# Altium schematic symbol library rookieboard_symbols.SchLib: 37 symbols
Pins are listed as number, name and electrical type; pins without a type are passive.

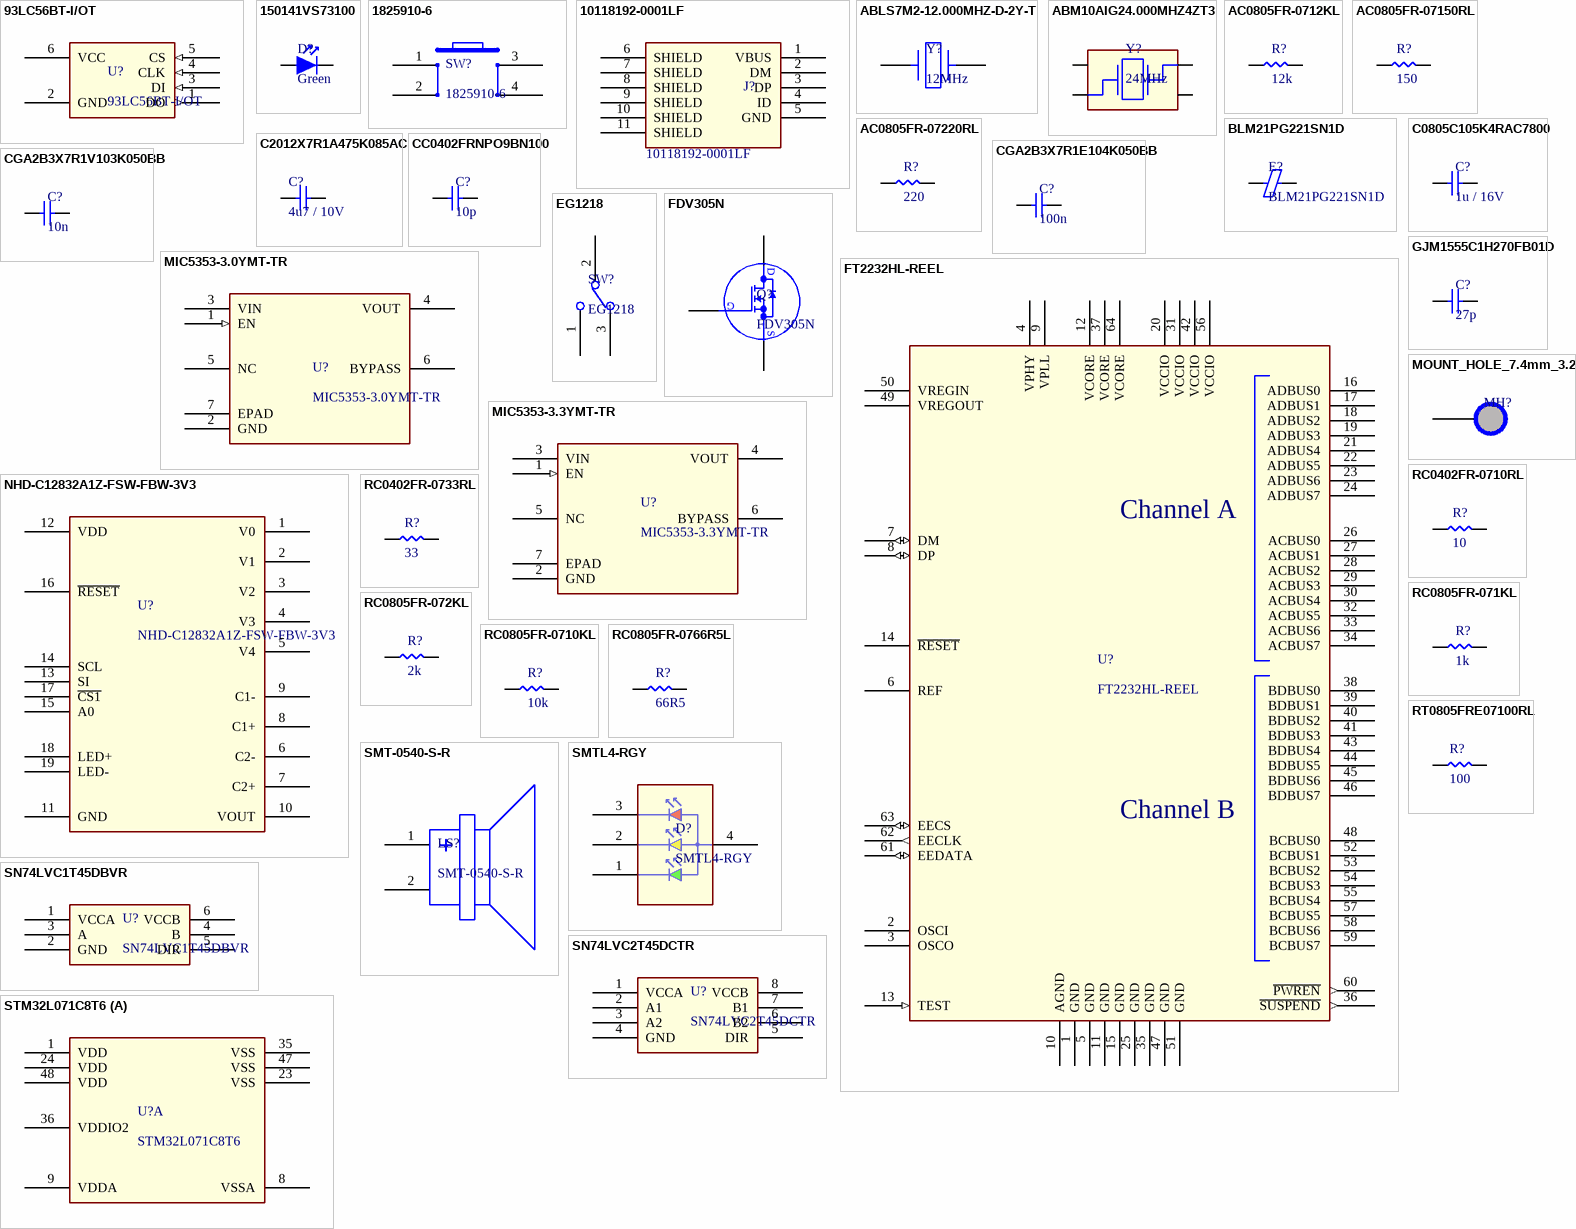
[diagram p0: symbols 93LC56BT-I/OT to STM32L071C8T6]

## 93LC56BT-I/OT
designator U?
EEPROM 128x16; Manufacturer: Microchip; Access Time (Max): 250 ns; Data Retention: 200; Density: 2048 Bit; Frequency: 2 MHz; Interface Type: Serial (Microwire); Operating Supply Voltage (Max): 5.5 V; Operating Supply Voltage (Min): 2.5 V; Operating Supply Voltage (Typ): 3.3/5 V; Programmable: Yes; Rad Hardened: No; Supply Current: 2 mA; Supplier 1: Digi-Key; Supplier Part Number 1: 93LC56BT-I/OTCT-ND; Stock 1: 24330; Pricing 1: 1=0.23, 25=0.2164, 100=0.2119 (USD); Mounting: Surface Mount; Operating Temp Range: -40C to 85C; Operating Temperature (Max): 85C; Operating Temperature (Min): -40C; Operating Temperature Classification: Industrial; Organization: 128x16; Package Type: SOT-23; Packaging: Tape and Reel; Pin Count: 6; Write Protection: No; Manufacturer Part Number: 93LC56BT-I/OT
footprint SOT-23-6
pins: 1 DO (out), 2 GND (power), 3 DI (in), 4 CLK (in), 5 CS (in), 6 VCC (power)

## 150141VS73100
designator D?, comment Green
WURTH ELEKTRONIK   150141VS73100   LED, GREEN, 90MCD, 570NM; Manufacturer: Wurth Electronics; Dynamic Catalog: 3.5mm x 2.8mm Round with Flat Top LEDs; 3D Model: SMTW_3528.igs / SMTW_3528.stp / SMTW_3528.wrl; Wavelength - Peak: 572nm; Voltage - Forward (Vf) (Typ): 2V; Current - Test: 20mA; Viewing Angle: 120°; Lens Type: Clear; Lens Style/Size: Round with Flat Top, 2.4mm; Other Names: 732-5002-1; Supplier 1: Digi-Key; Supplier Part Number 1: 732-5002-1-ND; Stock 1: 7722; Pricing 1: 1=0.17, 100=0.149, 500=0.113 (USD); Standard Package: 1; Category: Optoelectronics; Family: LED Indication - Discrete; Series: WL-SMTW; Packaging: Cut Tape (CT); Color: Green; Wavelength - Dominant: 570nm; Millicandela Rating: 90mcd; Package / Case: 2-PLCC; Size / Dimension: 3.20mm L x 2.80mm W; Height: 2.10mm; Mounting Type: Surface Mount; Online Catalog: 3.5mm x 2.8mm Round with Flat Top LEDs; Manufacturer Part Number: 150141VS73100
footprint 150141VS73100_LED
pins: 1 K, 2 A

## 1825910-6
designator SW?
Switch Push Button OFF (ON) SPST Round Button 0.05A 24VDC Momentary Contact PC Pins Thru-Hole; Manufacturer: TE Connectivity Alcoswitch; Actuator Color: Black; Actuator Length: 1.4 mm; Actuator Material: Polybutylene Terephthalate; Body Orientation: Straight; Bushing Type: Unthreaded; Electrical Life: 100000 Cycles; Dielectric Strength: 500 VAC; Contact Rating @ Voltage: 0.05A@24VDC; Maximum DC Voltage Rating: 24 V; Maximum Contact Resistance: 100 mOhm; Illumination: N/R; Supplier 1: Digi-Key; Supplier Part Number 1: 450-1650-ND; Stock 1: 75696; Pricing 1: 1=0.1, 10=0.093, 25=0.0892, 50=0.0862, 100=0.0814, 250=0.0766, 500=0.0734, 1000=0.0558, 5000=0.0463 (USD); Base Material: N/A; Actuator Style: Round Button; Family: 1825910; Contact Material: Copper Alloy; Contact Plating: Silver; Dimension: 5.99 x 5 mm; Part No: 1825910-6; RoHS: Yes; Function: Momentary Contact; Maximum AC Voltage Rating: N/A; Pole Throw Configuration: SPST; Mechanical Life: 100000 Cycles; Packaging: N/A; Housing Material: N/A; Product Weight: N/A; Mounting: Through Hole; Minimum Insulation Resistance: 100 MOhm; Operating Temperature: -35 to 85 C; Terminal Type: PC Pins; Seal Description: N/A; Switch Configuration: OFF (ON); Seal Location: N/A; Thread Size: N/R; Manufacturer Part Number: 1825910-6
footprint 1825910-6
pins: 1, 2, 3, 4

## 10118192-0001LF
designator J?
USB - micro B USB 2.0 Receptacle Connector 5 Position Surface Mount, Right Angle, Horizontal; Manufacturer: Amphenol FCI; Number of Contacts: 5 Contact; Gender: Female; Current Rating: 1.8 A; Brand: FCI; Connector Type: Micro USB Type B receptacle; Insulation Resistance: 1000 MOhms; Supplier 1: Digi-Key; Supplier Part Number 1: 609-4613-1-ND; Stock 1: 158518; Pricing 1: 1=0.42, 10=0.393, 25=0.3536, 50=0.3144, 100=0.3013, 250=0.2751, 500=0.262 (USD); Product Category: USB Connectors; RoHS: Details; Product: Micro USB Type B Connectors; Standard: USB 2.0; Termination Style: SMD/SMT; Color: Black; Contact Material: Copper Alloy; Contact Plating: Gold; Flammability Rating: UL 94 V-0; Mounting Angle: Right; Operating Temperature Range: - 55 C to + 85 C; Packaging: Reel; Factory Pack Quantity: 1400; Manufacturer Part Number: 10118192-0001LF
footprint 10118192-0001LF
pins: 1 VBUS (power), 2 DM, 3 DP, 4 ID, 5 GND (power), 6 SHIELD, 7 SHIELD, 8 SHIELD, 9 SHIELD, 10 SHIELD, 11 SHIELD

## ABLS7M2-12.000MHZ-D-2Y-T
designator Y?, comment 12MHz
Crystals 12.0MHz 18pF 30ppm -40C +85C; Manufacturer: Abracon; Manufacturer Part Number: ABLS7M2-12.000MHZ-D-2Y-T; Frequency Tolerance: ±20ppm; ESR (Equivalent Series Resistance): 60 Ohm; Operating Mode: Fundamental; Supplier 1: Digi-Key; Supplier Part Number 1: 535-12824-1-ND; Stock 1: 6192; Pricing 1: 1=0.4, 10=0.33, 50=0.297, 100=0.264, 500=0.2508, 1000=0.2112 (USD); Category: Crystals and Oscillators; Family: Crystals; Series: ABLS7M2; Packaging: Tape & Reel (TR); Type: MHz Crystal; Frequency: 12MHz; Frequency Stability: ±30ppm; Load Capacitance: 18pF; Operating Temperature: -40°C ~ 85°C; Ratings: -; Mounting Type: Surface Mount; Package / Case: 2-SMD, Flat Lead; Size / Dimension: 0.276" L x 0.161" W (7.00mm x 4.10mm); Height: 0.079" (2.00mm)
footprint ABLS7M2-12.000MHZ-D-2Y-T
pins: 1, 2

## ABM10AIG24.000MHZ4ZT3
designator Y?, comment 24MHz
Manufacturer: Abracon; Manufacturer Part Number: ABM10AIG24.000MHZ4ZT3; Supplier 1: Digi-Key; Supplier Part Number 1: 535-13363-1-ND; Stock 1: 0
footprint ABM10AIG-24.000MHZ-4Z-T3
pins: 1, 2, 3, 4

## AC0805FR-0712KL
designator R?, comment 12k
Res Thick Film 0805 12K Ohm 1% 0.125W(1/8W) ±100ppm/C Sulfur Resistant Molded SMD Automotive Paper T/R; Manufacturer: Yageo; Manufacturer Part Number: AC0805FR-0712KL; Resistance: 12kohm; Temperature Coefficient: ±100; Product Length (mm): 2mm; Product Depth (mm): 1.25mm; Product Height (mm): 0.5mm; Supplier 1: Digi-Key; Supplier Part Number 1: YAG3692CT-ND; Stock 1: 218; Pricing 1: 1=0.1, 10=0.055, 100=0.0225, 1000=0.0101, 2500=0.0088 (USD); Type: Thick Film; Power Rating(s): 1/8W; Tolerance (+ or -): 1%; Package / Case: 0805; Packaging: Tape and Reel; Operating Temp Range: -55C to 155C; Case Style: Molded; Military Standard: Not Required; Failure Rate: Not Required; Construction: Rectangular; Termination Style: Not Required
footprint R0805
pins: 1, 2

## AC0805FR-07150RL
designator R?, comment 150
Thick Film Resistors - SMD 1/8W 150ohm 1%; Manufacturer: Yageo; Manufacturer Part Number: AC0805FR-07150RL; Case Height: 0.5 mm; Case Length: 2 mm; Case Width: 1.25 mm; Power Rating: 125 mW (1/8 W); Resistance: 150 Ohms; Temperature Coefficient: 100 PPM / C; Voltage Rating: 150 V; Supplier 1: Digi-Key; Supplier Part Number 1: YAG3694CT-ND; Stock 1: 32315; Pricing 1: 1=0.1, 10=0.055, 100=0.0225, 1000=0.0101, 2500=0.0088 (USD); Brand: Yageo; Case Code - in: 0805; Case Code - mm: 2012; Dimensions: 1.25 mm W x 2 mm L x 0.5 mm H; Product Category: Thick Film Resistors - SMD; Operating Temperature Range: - 55 C to + 155 C; Package / Case: 0805 (2012 metric); Packaging: Reel; Product: Thick Film Resistors SMD; Termination Style: SMD/SMT; RoHS: Details; Tolerance: 1 %; Series: AC; Type: Chip Resistor Surface Mount
footprint R0805
pins: 1, 2

## AC0805FR-07220RL
designator R?, comment 220
Thick Film Resistors - SMD 1/8W 220ohm 1%; Manufacturer: Yageo; Manufacturer Part Number: AC0805FR-07220RL; Case Height: 0.5 mm; Case Length: 2 mm; Case Width: 1.25 mm; Power Rating: 125 mW (1/8 W); Resistance: 220 Ohms; Temperature Coefficient: 100 PPM / C; Voltage Rating: 150 V; Supplier 1: Digi-Key; Supplier Part Number 1: YAG3711CT-ND; Stock 1: 11948; Pricing 1: 1=0.1, 10=0.055, 100=0.0225, 1000=0.0101, 2500=0.0088 (USD); Brand: Yageo; Case Code - in: 0805; Case Code - mm: 2012; Dimensions: 1.25 mm W x 2 mm L x 0.5 mm H; Product Category: Thick Film Resistors - SMD; Operating Temperature Range: - 55 C to + 155 C; Package / Case: 0805 (2012 metric); Packaging: Reel; Product: Thick Film Resistors SMD; Termination Style: SMD/SMT; RoHS: Details; Tolerance: 1 %; Series: AC; Type: Chip Resistor Surface Mount
footprint R0805
pins: 1, 2

## BLM21PG221SN1D
designator E?
FERRITE CHIP 220 OHM 0805; Manufacturer: Murata; Product Training Modules: Ferrite Beads and Arrays; Catalog Drawings: BLM21 Series Side BLM21 Series Top; EDA / CAD Models: Download from Accelerated Designs; Filter Type: Power Line; Number of Lines: 1; Impedance @ Frequency: 220 Ohm @ 100MHz; Current Rating (Max): 2A; DC Resistance (DCR) (Max): 45 mOhm; Online Catalog: EMIFIL® BLM21P Series; Other Names: 490-1054-6; Supplier 1: Digi-Key; Supplier Part Number 1: 490-1054-1-ND; Stock 1: 1796179; Pricing 1: 1=0.1, 10=0.081, 25=0.0732, 50=0.0538, 100=0.0464, 250=0.0366, 500=0.0309, 1000=0.0261 (USD); Standard Package: 1; Category: Filters; Family: Ferrite Beads and Chips; Series: BLM21P; Packaging: Digi-Reel®; Ratings: -; Operating Temperature: -55°C ~ 125°C; Package / Case: 0805 (2012 Metric); Mounting Type: Surface Mount; Height (Max): 0.041" (1.05mm); Size / Dimension: 0.079" L x 0.049" W (2.00mm x 1.25mm); Manufacturer Part Number: BLM21PG221SN1D
footprint R0805
pins: 1, 2

## C0805C105K4RAC7800
designator C?, comment 1u / 16V
Multilayer Ceramic Capacitors MLCC - SMD/SMT 16volts 1uF X7R 10%; Manufacturer: KEMET; Manufacturer Part Number: C0805C105K4RAC7800; Rad Hard: No; Voltage: 16 Vdc; Product Length: 2 mm; Product Height: 0.9 mm; Product Depth: 1.25 mm; Supplier 1: Digi-Key; Supplier Part Number 1: 399-1284-1-ND; Stock 1: 40000; Pricing 1: 1=0.17, 10=0.124, 100=0.0581, 500=0.0408, 1000=0.0337 (USD); Package/Case: 0805; Mounting: Surface Mount; Capacitance Value: 1 uF; Tolerance: 10 %; Dielectric: X7R; Operating Temperature: -55 to 125 °C; Construction: Flat; Category: Capacitor Ceramic Multilayer
footprint C0805
pins: 1, 2

## C2012X7R1A475K085AC
designator C?, comment 4u7 / 10V
4.7µF ±10% 10V X7R Ceramic Capacitor -55°C ~ 125°C Surface Mount, MLCC 0805 (2012 Metric) 0.079" L x 0.049" W (2.00mm x 1.25mm); Manufacturer: TDK; Manufacturer Part Number: C2012X7R1A475K085AC; Product Training Modules: C Series General Applications SEAT, CCV, and TVCL Design Tools Guide to Replacing an Electrolytic Capacitor with an MLCC; EDA / CAD Models: Download from Accelerated Designs; Online Catalog: C Series, General Purpose; Other Names: 445-14527-6; Supplier 1: Digi-Key; Supplier Part Number 1: 445-14527-1-ND; Stock 1: 1; Pricing 1: 1=0.28, 10=0.19, 100=0.1075, 500=0.0759, 1000=0.0664 (USD); RoHS Information: RoHS Certificate-MLCC; Standard Package: 1; Category: Capacitors; Family: Ceramic Capacitors; Series: C; Packaging: Digi-Reel®; Capacitance: 4.7µF; Tolerance: ±10%; Voltage - Rated: 10V; Temperature Coefficient: X7R; Mounting Type: Surface Mount, MLCC; Operating Temperature: -55°C ~ 125°C; Applications: General Purpose; Package / Case: 0805 (2012 Metric); Size / Dimension: 0.079" L x 0.049" W (2.00mm x 1.25mm); Thickness (Max): 0.039" (1.00mm)
footprint C0805
pins: 1, 2

## CC0402FRNPO9BN100
designator C?, comment 10p
Cap Ceramic 10pF 50V C0G 1% SMD 0402 125C Paper T/R; Manufacturer: Yageo; Manufacturer Part Number: CC0402FRNPO9BN100; Voltage: 50VDC; Case Style: Ceramic Chip; Wire Form: Not Required; Product Length (mm): 1mm; Product Depth (mm): 0.5mm; Product Diameter (mm): Not Requiredmm; Supplier 1: Digi-Key; Supplier Part Number 1: 311-1640-1-ND; Stock 1: 82755; Pricing 1: 1=0.14, 10=0.104, 100=0.0464, 500=0.0331, 1000=0.026, 2500=0.0237, 5000=0.0218 (USD); Capacitance: 10pF; Tolerance (+ or -): 1%; Temp Coeff (Dielectric): C0G; Operating Temp Range: -55C to 125C; Mounting Style: Surface Mount; Package / Case: 0402; Construction: SMT Chip; Failure Rate: Not Required; Product Height (mm): 0.5mm; Packaging: Tape and Reel; ComponentLink1URL: http://www.yageo.com/documents/recent/UPY-GP_NP0_16V-to-50V_8.pdf; ComponentLink1Description: http://www.yageo.com/documents/recent/UPY-GP_NP0_16V-to-50V_8.pdf
footprint C0402
pins: 1, 2

## CGA2B3X7R1E104K050BB
designator C?, comment 100n
TDK         CGA2B3X7R1E104K050BB             SMD Multilayer Ceramic Capacitor, 0402 [1005 Metric], 0.1 F, 25 V,  10%, X7R, CGA Series; PCN Part Number: MLCC Part Number Change 30/Nov/2012; Product Training Modules: CGA Series for Automotive Applications SEAT, CCV, and TVCL Design Tools Guide to Replacing an Electrolytic Capacitor with an MLCC; Featured Product: CGA Series MLCC Capacitors; Capacitance: 0.1µF; Voltage - Rated: 25V; Online Catalog: CGA Series, Automotive General, Mid and High Voltage; Other Names: 445-6902-6; Supplier 1: Digi-Key; Supplier Part Number 1: 445-6902-1-ND; Manufacturer: TDK; Stock 1: 100000; Pricing 1: 1=0.16, 10=0.115, 100=0.054, 500=0.0379, 1000=0.0314, 2500=0.0292, 5000=0.0267 (USD); RoHS Information: RoHS Certificate-MLCC; Standard Package: 1; Category: Capacitors; Family: Ceramic Capacitors; Series: CGA; Packaging: Digi-Reel®; Tolerance: ±10%; Temperature Coefficient: X7R; Mounting Type: Surface Mount, MLCC; Operating Temperature: -55°C ~ 125°C; Applications: Automotive; Ratings: AEC-Q200; Package / Case: 0402 (1005 Metric); Size / Dimension: 0.039" L x 0.020" W (1.00mm x 0.50mm); Height - Seated (Max): -; Thickness (Max): 0.022" (0.55mm); Lead Spacing: -; Features: -; Lead Style: -; ComponentLink1URL: http://www.farnell.com/datasheets/1735392.pdf; ComponentLink1Description: http://www.farnell.com/datasheets/1735392.pdf; ComponentLink2URL: http://www.mouser.com/ds/2/400/lcc_automotive_general_en-843974.pdf; ComponentLink2Description: http://www.mouser.com/ds/2/400/lcc_automotive_general_en-843974.pdf; Manufacturer Part Number: CGA2B3X7R1E104K050BB
footprint C0402
pins: 1, 2

## CGA2B3X7R1V103K050BB
designator C?, comment 10n
TDK         CGA2B3X7R1V103K050BB             SMD Multilayer Ceramic Capacitor, 0402 [1005 Metric], 0.01 F, 35 V,  10%, X7R, CGA Series; PCN Part Number: MLCC Part Number Change 30/Nov/2012; Product Training Modules: CGA Series for Automotive Applications SEAT, CCV, and TVCL Design Tools Guide to Replacing an Electrolytic Capacitor with an MLCC; Featured Product: CGA Series MLCC Capacitors; Capacitance: 10000pF; Voltage - Rated: 35V; Online Catalog: CGA Series, Automotive General, Mid and High Voltage; Other Names: 445-6900-6; Supplier 1: Digi-Key; Supplier Part Number 1: 445-6900-1-ND; Manufacturer: TDK; Stock 1: 100000; Pricing 1: 1=0.11, 10=0.083, 100=0.0372, 500=0.0265, 1000=0.0209, 2500=0.019, 5000=0.0174 (USD); RoHS Information: RoHS Certificate-MLCC; Standard Package: 1; Category: Capacitors; Family: Ceramic Capacitors; Series: CGA; Packaging: Digi-Reel®; Tolerance: ±10%; Temperature Coefficient: X7R; Mounting Type: Surface Mount, MLCC; Operating Temperature: -55°C ~ 125°C; Applications: Automotive; Ratings: AEC-Q200; Package / Case: 0402 (1005 Metric); Size / Dimension: 0.039" L x 0.020" W (1.00mm x 0.50mm); Height - Seated (Max): -; Thickness (Max): 0.022" (0.55mm); Lead Spacing: -; Features: -; Lead Style: -; ComponentLink1URL: http://www.farnell.com/datasheets/1807242.pdf; ComponentLink1Description: http://www.farnell.com/datasheets/1807242.pdf; ComponentLink2URL: http://www.mouser.com/ds/2/400/lcc_automotive_general_en-843974.pdf; ComponentLink2Description: http://www.mouser.com/ds/2/400/lcc_automotive_general_en-843974.pdf; Manufacturer Part Number: CGA2B3X7R1V103K050BB
footprint C0402
pins: 1, 2

## EG1218
designator SW?
E-SWITCH         EG1218             SLIDE SWITCH, SPDT, 200MA; Product Training Modules: Switch Basics Power Switch Overview; 3D Model: EG1218.stp; Contact Timing: Non-Shorting (BBM); Switch Function: On-On; Current Rating: 200mA (DC); Voltage Rating - DC: 30V; Actuator Type: Standard; Actuator Length: 2.00mm; Switch Travel: 2.50mm; Operating Force: 250gf; Online Catalog: EG Series; Other Names: EG1903 P040040; Supplier 1: Digi-Key; Supplier Part Number 1: EG1903-ND; Manufacturer: E-Switch; Stock 1: 39243; Pricing 1: 1=0.58, 10=0.559, 25=0.5472, 50=0.4888, 100=0.4656, 250=0.454, 500=0.3841, 1000=0.3725, 5000=0.3259 (USD); Catalog Drawings: EG1218; Standard Package: 1,000; Category: Switches; Family: Slide Switches; Series: EG; Packaging: Bulk; Circuit: SPDT; Voltage Rating - AC: -; Contact Material: Copper Alloy; Contact Finish: Silver; Mounting Type: Through Hole; Termination Style: PC Pin; Features: -; Actuator Material: -; Operating Temperature: -20°C ~ 70°C; Mechanical Life: -; Electrical Life: -; Manufacturer Part Number: EG1218
footprint EG1218
pins: 1, 2, 3

## FDV305N
designator Q?
MOSFET N-CH 20V 0.9A SOT-23; Manufacturer: ON Semiconductor / Fairchild; Channel Type: N; Maximum Drain Source Resistance: 0.22 Ω; Minimum Gate Threshold Voltage: 0.6V; Maximum Gate Source Voltage: ±12 V; Transistor Configuration: Single; Channel Mode: Enhancement; Maximum Power Dissipation: 0.35 W; Typical Gate Charge @ Vgs: 1.1 nC @ 4.5 V; Typical Turn-Off Delay Time: 8 ns; Number of Elements per Chip: 1; Transistor Material: Si; Typical Turn-On Delay Time: 4.5 ns; Typical Input Capacitance @ Vds: 109 pF@ 10 V; Supplier 1: Digi-Key; Supplier Part Number 1: FDV305NCT-ND; Stock 1: 113719; Pricing 1: 1=0.43, 10=0.341, 100=0.234, 500=0.1604, 1000=0.1203 (USD); Maximum Continuous Drain Current: 0.9 A; Maximum Drain Source Voltage: 20 V; Package Type: SOT-23; Mounting Type: Surface Mount; Pin Count: 3; Category: Power MOSFET; Maximum Operating Temperature: +150 °C; Length: 2.92mm; Dimensions: 2.92 x 1.3 x 0.93mm; Width: 1.3mm; Minimum Operating Temperature: -55 °C; Height: 0.93mm; ComponentLink1URL: http://www.jameco.com/Jameco/Products/ProdDS/899087.pdf; ComponentLink1Description: http://www.jameco.com/Jameco/Products/ProdDS/899087.pdf; ComponentLink2URL: http://www.mouser.com/ds/2/149/FDV305N-79611.pdf; ComponentLink2Description: http://www.mouser.com/ds/2/149/FDV305N-79611.pdf; ComponentLink3URL: https://www.fairchildsemi.com/package-drawings/MA/MA03B.pdf; ComponentLink3Description: https://www.fairchildsemi.com/package-drawings/MA/MA03B.pdf; ComponentLink4URL: http://www.farnell.com/datasheets/184807.pdf; ComponentLink4Description: http://www.farnell.com/datasheets/184807.pdf; ComponentLink5URL: http://www.fairchildsemi.com/ds/FD/FDV305N.pdf; ComponentLink5Description: http://www.fairchildsemi.com/ds/FD/FDV305N.pdf; ComponentLink6URL: https://www.fairchildsemi.com/datasheets/FD/FDV305N.pdf; ComponentLink6Description: https://www.fairchildsemi.com/datasheets/FD/FDV305N.pdf; Manufacturer Part Number: FDV305N
footprint FDV305N_SOT-23-3
pins: 1 G, 2 S, 3 D

## FT2232HL-REEL
designator U?
IC USB HS DUAL UART/FIFO 64-LQFP; Manufacturer: FTDI; Number of Channels: 2; Interface Circuit Standard 1: RS-232/RS-422/RS-485; Transmitter and Receiver FIFO Counter: No; Data Rate: 480Mbps; Operating Supply Voltage (Typ): 1.8/3.3V; Operating Supply Voltage (Max): 3.63V; Operating Supply Voltage (Min): 1.62V; Supply Current: 70(Typ)mA; Supplier 1: Digi-Key; Supplier Part Number 1: 768-1024-1-ND; Stock 1: 30383; Pricing 1: 1=6.71, 10=6.2, 100=5.4, 250=4.56, 500=4.06 (USD); Package Type: LQFP; Packaging: Tape and Reel; Mounting: Surface Mount; Pin Count: 64; Operating Temperature (Min): -40C; Operating Temperature (Max): 85C; Operating Temperature Classification: Industrial; Manufacturer Part Number: FT2232HL-REEL
footprint LQFP64
pins: 1 GND (power), 2 OSCI, 3 OSCO, 4 VPHY (power), 5 GND (power), 6 REF, 7 DM (io), 8 DP (io), 9 VPLL (power), 10 AGND (power), 11 GND (power), 12 VCORE (power), 13 TEST (in), 14 ~{RESET}, 15 GND (power), 16 ADBUS0, 17 ADBUS1, 18 ADBUS2, 19 ADBUS3, 20 VCCIO (power), 21 ADBUS4, 22 ADBUS5, 23 ADBUS6, 24 ADBUS7, 25 GND (power), 26 ACBUS0, 27 ACBUS1, 28 ACBUS2, 29 ACBUS3, 30 ACBUS4, 31 VCCIO (power), 32 ACBUS5, 33 ACBUS6, 34 ACBUS7, 35 GND (power), 36 ~{SUSPEND} (out), 37 VCORE (power), 38 BDBUS0, 39 BDBUS1, 40 BDBUS2, 41 BDBUS3, 42 VCCIO (power), 43 BDBUS4, 44 BDBUS5, 45 BDBUS6, 46 BDBUS7, 47 GND (power), 48 BCBUS0, 49 VREGOUT (power), 50 VREGIN (power), 51 GND (power), 52 BCBUS1, 53 BCBUS2, 54 BCBUS3, 55 BCBUS4, 56 VCCIO (power), 57 BCBUS5, 58 BCBUS6, 59 BCBUS7, 60 ~{PWREN} (out), 61 EEDATA (io), 62 EECLK (out), 63 EECS (io), 64 VCORE (power)
text: Channel A; Channel B

## GJM1555C1H270FB01D
designator C?, comment 27p
Manufacturer: Murata; Manufacturer Part Number: GJM1555C1H270FB01D; Supplier 1: Digi-Key; Supplier Part Number 1: 490-16380-1-ND; Stock 1: 14501; Pricing 1: 1=0.23, 10=0.155, 100=0.0784, 500=0.0536, 1000=0.0474, 2500=0.0454, 5000=0.0413 (USD); ComponentLink1URL: http://datasheet.octopart.com/GJM1555C1H270FB01D-Murata-datasheet-8819587.pdf; ComponentLink1Description: http://datasheet.octopart.com/GJM1555C1H270FB01D-Murata-datasheet-8819587.pdf; ComponentLink2URL: http://datasheet.octopart.com/GJM1555C1H270FB01D-Murata-datasheet-10025737.pdf; ComponentLink2Description: http://datasheet.octopart.com/GJM1555C1H270FB01D-Murata-datasheet-10025737.pdf; ComponentLink3URL: http://datasheet.octopart.com/GJM1555C1H270FB01D-Murata-datasheet-11978611.pdf; ComponentLink3Description: http://datasheet.octopart.com/GJM1555C1H270FB01D-Murata-datasheet-11978611.pdf; ComponentLink4URL: http://datasheet.octopart.com/GJM1555C1H270FB01D-Murata-datasheet-12510076.pdf; ComponentLink4Description: http://datasheet.octopart.com/GJM1555C1H270FB01D-Murata-datasheet-12510076.pdf; ComponentLink5URL: http://datasheet.octopart.com/GJM1555C1H270FB01D-Murata-datasheet-12515295.pdf; ComponentLink5Description: http://datasheet.octopart.com/GJM1555C1H270FB01D-Murata-datasheet-12515295.pdf
footprint C0402
pins: 1, 2

## MIC5353-3.0YMT-TR
designator U?
6Vin, Single 500mA ULDO, 6 UDFN 1.6x1.6x0.6mm T/R; Manufacturer: Microchip; Regulator Topology: Positive Fixed; Voltage - Output: 3V; Voltage - Dropout (Typical): 0.16V @ 500mA; Number of Regulators: 1; Voltage - Input: Up to 6V; Current - Limit (Min): 600mA; Supplier 1: Digi-Key; Supplier Part Number 1: 576-3679-1-ND; Stock 1: 4083; Pricing 1: 1=0.35, 25=0.2884, 100=0.2678 (USD); Category: Integrated Circuits (ICs); Family: PMIC - Voltage Regulators - Linear; Series: -; Packaging: Digi-Reel®; Current - Output: 500mA; Operating Temperature: -40°C ~ 125°C; Mounting Type: Surface Mount; Package / Case: 6-UFDFN Exposed Pad, 6-TMLF®; Supplier Device Package: 6-TMLF® (1.6x1.6); Manufacturer Part Number: MIC5353-3.0YMT-TR
footprint 6-MLF
pins: 1 EN (in), 2 GND (power), 3 VIN (power), 4 VOUT (power), 5 NC, 6 BYPASS, 7 EPAD (power)

## MIC5353-3.3YMT-TR
designator U?
MICROCHIP         MIC5353-3.3YMT-TR             Fixed LDO Voltage Regulator, 2.6V to 6V, 160mV Dropout, 3.3Vout, 500mAout, MLF-6; Fixed Output Voltage Nom.: 3.3V; Output Current: 500mA; LDO Regulator Case Style: MLF; No. of Pins: 6Pins; Product Range: 3.3V 500mA LDO Voltage Regulators; SVHC: No SVHC (17-Dec-2015); Supplier 1: Digi-Key; Supplier Part Number 1: 576-3680-1-ND; Manufacturer: Microchip; Stock 1: 12369; Pricing 1: 1=0.43, 25=0.35, 100=0.325 (USD); Output Type: Fixed; Input Voltage Min: 2.6V; Input Voltage Max: 6V; Adjustable Output Voltage Min: -; Adjustable Output Voltage Max: -; Dropout Voltage Vdo: 160mV; Operating Temperature Min: -40°C; Operating Temperature Max: 125°C; Packaging: Cut Tape; Automotive Qualification Standard: -; MSL: MSL 1 - Unlimited; Manufacturer Part Number: MIC5353-3.3YMT-TR
footprint 6-MLF
pins: 1 EN (in), 2 GND (power), 3 VIN (power), 4 VOUT (power), 5 NC, 6 BYPASS, 7 EPAD (power)

## MOUNT_HOLE_7.4mm_3.2mm
designator MH?, comment Mounting Hole 7.4mm, 3.2mm  (value not drawn)  (no BOM)
footprint MH_7.4mm_3.2mm
pins: 1

## NHD-C12832A1Z-FSW-FBW-3V3
designator U?
LCD COG GRAPHIC 128X32; Manufacturer: Newhaven Display; Active Area: 31.98x7.98 mm; Backlight: LED; Typical Contrast Ratio: 6:1; Pin_Count: 17; Display Mode: Transflective; Typical Response Time: 300 ms; Touchscreen: No; LCD Type: FSTN; COO: CN; Supplier 1: Newhaven Display; Supplier Part Number 1: NHD-C12832A1Z-FSW-FBW-3V3-ND; Stock 1: 6491; Pricing 1: 1=11, 5=10.34, 10=9.68, 50=9.13, 100=8.69, 250=8.25, 500=7.92 (USD); Part No: NHD-C12832A1Z-FSW-FBW-3V3; RoHS: Yes; Supplier Standard Pack: 100; Outline Dimensions: 41.4x24.3x4 mm; Family: NHD-C12832A1Z-FSW-FBW-3V3; Supplier_Package: N/A; Packaging: N/A; Display Color: N/A; Display Size: N/A; Mounting: Through Hole; Typical Brightness: N/A; Resolution Standard: N/A; Operating Temperature: -20 to 70 C; Dimension: 41.4 x 24.3 x 4.9mm; HTS: 8531200020; ECCN: EAR99; Manufacturer Part Number: NHD-C12832A1Z-FSW-FBW-3V3
footprint NHD-C12832A1Z-FSW-FBW-3V3
pins: 1 V0 (power), 2 V1 (power), 3 V2 (power), 4 V3 (power), 5 V4 (power), 6 C2- (power), 7 C2+ (power), 8 C1+ (power), 9 C1- (power), 10 VOUT (power), 11 GND (power), 12 VDD (power), 13 SI, 14 SCL, 15 A0, 16 ~{RESET}, 17 ~{CS1}, 18 LED+, 19 LED-

## RC0402FR-0710RL
designator R?, comment 10
RES SMD 10 OHM 1% 1/16W 0402; Manufacturer: Yageo; Manufacturer Part Number: RC0402FR-0710RL; Resistance: 10 Ohms; Power Rating: 62.5 mW (1/16 W); Voltage Rating: 50 V; Temperature Coefficient: 100 PPM / C; Supplier 1: Digi-Key; Supplier Part Number 1: 311-10.0LRCT-ND; Stock 1: 1306139; Pricing 1: 1=0.1, 10=0.027, 100=0.0111, 1000=0.005, 2500=0.0043, 5000=0.0036 (USD); Termination Style: SMD/SMT; Product: Thick Film Resistors General Purpose; Tolerance: 1 %; Case Code - in: 0402; Case Code - mm: 1005; Series: RC; Operating Temperature Range: - 55 C to + 155 C; Packaging: Reel; ComponentLink1URL: http://www.farnell.com/datasheets/1018594.pdf; ComponentLink1Description: http://www.farnell.com/datasheets/1018594.pdf; ComponentLink2URL: https://www.verical.com/server-webapp/html/getDatasheet?partID=323697; ComponentLink2Description: https://www.verical.com/server-webapp/html/getDatasheet?partID=323697
footprint R0402
pins: 1, 2

## RC0402FR-0733RL
designator R?, comment 33
YAGEO (PHYCOMP)         RC0402FR-0733RL             SMD Chip Resistor, Thick Film, 33 ohm, 50 V, 0402 [1005 Metric], 62.5 mW,  1%, RC Series; Resistance: 33ohm; Voltage Rating: 50V; Power Rating: 62.5mW; Temperature Coefficient: ± 100ppm/°C; SVHC: To Be Advised; Supplier 1: Digi-Key; Supplier Part Number 1: 311-33.0LRCT-ND; Manufacturer: Yageo; Stock 1: 10530829; Pricing 1: 1=0.1, 10=0.018, 100=0.0073, 1000=0.0033, 2500=0.0029, 5000=0.0024 (USD); Product Range: RC Series; Resistor Case Style: 0402 [1005 Metric]; Resistance Tolerance: ± 1%; Packaging: Cut Tape; Resistor Element Type: Thick Film; MSL: MSL 1 - Unlimited; ComponentLink1URL: https://www.verical.com/server-webapp/html/getDatasheet?partID=329253; ComponentLink1Description: https://www.verical.com/server-webapp/html/getDatasheet?partID=329253; ComponentLink2URL: http://www.yageo.com/documents/recent/PYu-RC_Group_51_RoHS_L_9.pdf; ComponentLink2Description: http://www.yageo.com/documents/recent/PYu-RC_Group_51_RoHS_L_9.pdf; ComponentLink3URL: http://www.farnell.com/datasheets/1018594.pdf; ComponentLink3Description: http://www.farnell.com/datasheets/1018594.pdf; ComponentLink4URL: http://documents.rs-components.com/techlib://itc_doclist_GB.htm?stockno=6186734; ComponentLink4Description: http://documents.rs-components.com/techlib://itc_doclist_GB.htm?stockno=6186734; ComponentLink5URL: http://www.yageo.com/documents/recent/PYu-RC0402_51_RoHS_L_6_r.pdf; ComponentLink5Description: http://www.yageo.com/documents/recent/PYu-RC0402_51_RoHS_L_6_r.pdf; Manufacturer Part Number: RC0402FR-0733RL
footprint R0402
pins: 1, 2

## RC0805FR-071KL
designator R?, comment 1k
RES SMD 1K OHM 1% 1/8W 0805; Manufacturer: Yageo; Manufacturer Part Number: RC0805FR-071KL; Resistance: 1 kOhms; Power Rating: 125 mW (1/8 W); Voltage Rating: 150 V; Temperature Coefficient: 100 PPM / C; Supplier 1: Digi-Key; Supplier Part Number 1: 311-1.00KCRCT-ND; Stock 1: 1262363; Pricing 1: 1=0.1, 10=0.046, 100=0.0186, 1000=0.0084, 2500=0.0073 (USD); Termination Style: SMD/SMT; Product: Thick Film Resistors General Purpose; Tolerance: 1 %; Case Code - in: 0805; Case Code - mm: 2012; Series: RC; Operating Temperature Range: - 55 C to + 155 C; Packaging: Reel
footprint R0805
pins: 1, 2

## RC0805FR-072KL
designator R?, comment 2k
RES SMD 2K OHM 1% 1/8W 0805; Manufacturer: Yageo; Manufacturer Part Number: RC0805FR-072KL; Resistance: 2 kOhms; Power Rating: 125 mW (1/8 W); Voltage Rating: 150 V; Temperature Coefficient: 100 PPM / C; Supplier 1: Digi-Key; Supplier Part Number 1: 311-2.00KCRCT-ND; Stock 1: 993055; Pricing 1: 1=0.1, 10=0.046, 100=0.0186, 1000=0.0084, 2500=0.0073 (USD); Termination Style: SMD/SMT; Product: Thick Film Resistors General Purpose; Tolerance: 1 %; Case Code - in: 0805; Case Code - mm: 2012; Series: RC; Operating Temperature Range: - 55 C to + 155 C; Packaging: Reel
footprint R0805
pins: 1, 2

## RC0805FR-0710KL
designator R?, comment 10k
RES SMD 10K OHM 1% 1/8W 0805; Manufacturer: Yageo; Manufacturer Part Number: RC0805FR-0710KL; Resistance: 10 kOhms; Power Rating: 125 mW (1/8 W); Voltage Rating: 150 V; Temperature Coefficient: 100 PPM / C; Supplier 1: Digi-Key; Supplier Part Number 1: 311-10.0KCRCT-ND; Stock 1: 31531286; Pricing 1: 1=0.1, 10=0.046, 100=0.0186, 1000=0.0084, 2500=0.0073 (USD); Termination Style: SMD/SMT; Product: Thick Film Resistors General Purpose; Tolerance: 1 %; Case Code - in: 0805; Case Code - mm: 2012; Series: RC; Operating Temperature Range: - 55 C to + 155 C; Packaging: Reel
footprint R0805
pins: 1, 2

## RC0805FR-0766R5L
designator R?, comment 66R5
Thick Film Resistors - SMD 66.5 OHM 1%; Manufacturer: Yageo; Manufacturer Part Number: RC0805FR-0766R5L; Case Height: 0.5 mm; Case Length: 2 mm; Case Width: 1.25 mm; Power Rating: 125 mW (1/8 W); Resistance: 66.5 Ohms; Temperature Coefficient: 100 PPM / C; Voltage Rating: 150 V; Supplier 1: Digi-Key; Supplier Part Number 1: 311-66.5CRCT-ND; Stock 1: 162629; Pricing 1: 1=0.1, 10=0.056, 100=0.0228, 1000=0.0102, 2500=0.0089 (USD); Brand: Yageo; Case Code - in: 0805; Case Code - mm: 2012; Dimensions: 1.25 mm W x 2 mm L x 0.5 mm H; Product Category: Thick Film Resistors - SMD; Operating Temperature Range: - 55 C to + 155 C; Package / Case: 0805 (2012 metric); Packaging: Reel; Product: Thick Film Resistors General Purpose; Termination Style: SMD/SMT; RoHS: Details; Tolerance: 1 %; Series: RC; Type: General Purpose Chip Resistor Surface Mount
footprint R0805
pins: 1, 2

## RT0805FRE07100RL
designator R?, comment 100
RES SMD 100 OHM 1% 1/8W 0805; Manufacturer: Yageo; Manufacturer Part Number: RT0805FRE07100RL; Resistance: 100 Ohms; Power Rating: 125 mW (1/8 W); Temperature Coefficient: 50 PPM / C; Voltage Rating: 150 V; Unit Weight: 0.000194 oz; Supplier 1: Digi-Key; Supplier Part Number 1: YAG3360CT-ND; Stock 1: 7; Pricing 1: 1=0.11, 10=0.097, 100=0.0375, 1000=0.0165, 2500=0.0142 (USD); Product Category: Thin Film Resistors; RoHS: True; Brand: Yageo; Tolerance: 1 %; Case Code - in: 0805; Case Code - mm: 2012; Operating Temperature Range: - 55 C to + 125 C; Series: RT; Packaging: Reel; Height: 0.5 mm; Length: 2 mm; Package / Case: 0805 (2012 metric); Product: Thin Film Resistors SMD; Termination Style: SMD/SMT; Type: High Precision, High Stability; Width: 1.2 mm; ComponentLink1URL: http://www.yageo.com/NewPortal/yageodocoutput?fileName=/pdf/R-Chip/PYu-RT_1-to-0.05_RoHS_L_5.pdf; ComponentLink1Description: http://www.yageo.com/NewPortal/yageodocoutput?fileName=/pdf/R-Chip/PYu-RT_1-to-0.05_RoHS_L_5.pdf; ComponentLink2URL: http://www.mouser.com/ds/2/447/yageodocoutput-1125656.pdf; ComponentLink2Description: http://www.mouser.com/ds/2/447/yageodocoutput-1125656.pdf; ComponentLink3URL: http://www.farnell.com/datasheets/442970.pdf; ComponentLink3Description: http://www.farnell.com/datasheets/442970.pdf
footprint R0805
pins: 1, 2

## SMT-0540-S-R
designator LS?
BUZZER MAGNETIC 3V 5MM SMD; Manufacturer: Projects Unlimited; Frequency: 4 kHz; Sound Pressure Level: 78 dBA; Shape: Square; Brand: PUI Audio; Supplier 1: Digi-Key; Supplier Part Number 1: 668-1060-1-ND; Stock 1: 22701; Pricing 1: 1=3.13, 10=2.476, 25=2.2596, 50=2.1106, 100=1.9619, 250=1.7995, 500=1.6913 (USD); Product Category: Speakers & Transducers; RoHS: True; Product: Transducers; Type: Electromagnetic; Termination Style: Gullwing Lead; Length: 5 mm; Width: 5 mm; Depth: 2 mm; Length - in: 0.197 in; Length - mm: 5 mm; Operating Temperature Range: - 40 C to + 85 C; Packaging: Reel; Factory Pack Quantity: 2000; Width - in: 0.197 in; Width - mm: 5 mm; ComponentLink1URL: http://www.mouser.com/ds/2/334/SMT-0540-S-R-44003.pdf; ComponentLink1Description: http://www.mouser.com/ds/2/334/SMT-0540-S-R-44003.pdf; ComponentLink2URL: http://www.puiaudio.com/pdf/SMT-0540-S-R.pdf; ComponentLink2Description: http://www.puiaudio.com/pdf/SMT-0540-S-R.pdf; ComponentLink3URL: http://www.farnell.com/datasheets/1916494.pdf; ComponentLink3Description: http://www.farnell.com/datasheets/1916494.pdf; Manufacturer Part Number: SMT-0540-S-R
footprint SMT-0540-S-R
pins: 1 +, 2 +

## SMTL4-RGY
designator D?
Green, Red, Yellow 570nm Green, 640nm Red, 585nm Yellow LED Indication - Discrete 1.9V Green, 1.85V Red, 1.9V Yellow 4-PLCC; Manufacturer: Bivar; Lens Color: Colorless; Lens Transparency: Clear; Millicandela Rating: 40mcd Green, 36mcd Red, 16mcd Yellow; Lens Style/Size: Round with Flat Top, 2.40mm; Current - Test: 20mA Green, 20mA Red, 20mA Yellow; Viewing Angle: 120°; Supplier 1: Digi-Key; Supplier Part Number 1: 492-2173-1-ND; Stock 1: 53898; Pricing 1: 1=1.65, 10=1.338, 25=1.0296, 100=0.9266, 250=0.8237, 500=0.7001, 1000=0.5766 (USD); Category: Optoelectronics; Family: LED Indication - Discrete; Series: -; Packaging: Tape & Reel (TR); Part Status: Active; Color: Green, Red, Yellow; Voltage - Forward (Vf) (Typ): 1.9V Green, 1.85V Red, 1.9V Yellow; Mounting Type: Surface Mount; Wavelength - Dominant: 570nm Green, 640nm Red, 585nm Yellow; Wavelength - Peak: -; Features: -; Package / Case: 4-PLCC; Supplier Device Package: 4-PLCC; Size / Dimension: 3.20mm L x 2.80mm W; Height (Max): 2.05mm; Manufacturer Part Number: SMTL4-RGY
footprint SMTL4-RGY
pins: 1 GREEN_CATHODE, 2 YELLOW_CATHODE, 3 RED_CATHODE, 4 COMMON_ANODE

## SN74LVC1T45DBVR
designator U?
TEXAS INSTRUMENTS   SN74LVC1T45DBVR   Transceiver, Non-Inverting, 3-State, 1 Input, 1.65V to 5.5V, SOT-23-6; Additional Features: W/Volt Translation; DELETED: Compliant; High Level Output Current: -32 mA; Input Logic Level: LVTTL; Logic Family: LVC; Low Level Output Current: 32 mA; Number of  Elements: 1; Operating Supply Voltage (Typ): 1.8/2.5/3.3/5 V; Propagation Delay Time: 36.2 ns; Quiescent Current: 3 uA; Rad Hardened: No; Supplier 1: Digi-Key; Supplier Part Number 1: 296-16843-1-ND; Manufacturer: Texas Instruments; Stock 1: 138438; Pricing 1: 1=0.6, 10=0.51, 100=0.3807, 500=0.2991, 1000=0.2311 (USD); Mounting: Surface Mount; Number of Channels: 1; Operating Supply Voltage (Max): 5.5 V; Operating Supply Voltage (Min): 1.65 V; Operating Temp Range: -40C to 85C; Operating Temperature (Max): 85C; Operating Temperature (Min): -40C; Operating Temperature Classification: Industrial; Output Logic Level: LVTTL; Output Type: 3-State; Package Type: SOT-23; Packaging: Tape and Reel; Pin Count: 6; Polarity: Non-Inverting; Technology: CMOS; ComponentLink1URL: http://www.jameco.com/Jameco/Products/ProdDS/2000549.pdf; ComponentLink1Description: http://www.jameco.com/Jameco/Products/ProdDS/2000549.pdf; ComponentLink2URL: https://www.verical.com/server-webapp/html/getDatasheet?partID=309359; ComponentLink2Description: https://www.verical.com/server-webapp/html/getDatasheet?partID=309359; ComponentLink3URL: http://www.ti.com/lit/ds/symlink/sn74lvc1t45.pdf; ComponentLink3Description: http://www.ti.com/lit/ds/symlink/sn74lvc1t45.pdf; ComponentLink4URL: http://focus.ti.com/lit/ds/symlink/sn74lvc1t45.pdf; ComponentLink4Description: http://focus.ti.com/lit/ds/symlink/sn74lvc1t45.pdf; Manufacturer Part Number: SN74LVC1T45DBVR
footprint SOT-23-6
pins: 1 VCCA (power), 2 GND (power), 3 A, 4 B, 5 DIR, 6 VCCB (power)

## SN74LVC2T45DCTR
designator U?
IC, 2BIT BUS TRANSCEIVER, SSOP-8; Manufacturer: Texas Instruments; Propagation Delay Time: 45.2ns; Number of  Elements: 1; Number of Channels: 2; Input Logic Level: LVTTL/TTL; Output Logic Level: LVCMOS; Polarity: Non-Inverting; Additional Features: W/Volt Translation; Logic Family: LVC; Logical Function: Voltage Level Translator; High Level Output Current: -32mA; Low Level Output Current: 32mA; Output Type: 3-State; Operating Supply Voltage (Typ): 1.8/2.5/3.3/5V; Quiescent Current: 3uA; Operating Supply Voltage (Max): 5.5V; Operating Supply Voltage (Min): 1.65V; Supplier 1: Digi-Key; Supplier Part Number 1: 296-16845-1-ND; Stock 1: 236711; Pricing 1: 1=0.61, 10=0.537, 100=0.4117, 500=0.3255, 1000=0.2604 (USD); Operating Temp Range: -40C to 85C; Technology: CMOS; Package Type: SSOP; Packaging: Tape and Reel; Mounting: Surface Mount; Pin Count: 8; Operating Temperature (Min): -40C; Operating Temperature (Max): 85C; Operating Temperature Classification: Industrial; ComponentLink1URL: http://www.ti.com/lit/ds/symlink/sn74lvc2t45.pdf; ComponentLink1Description: http://www.ti.com/lit/ds/symlink/sn74lvc2t45.pdf; ComponentLink2URL: http://www.jameco.com/Jameco/Products/ProdDS/1046748.pdf; ComponentLink2Description: http://www.jameco.com/Jameco/Products/ProdDS/1046748.pdf; ComponentLink3URL: https://www.verical.com/server-webapp/html/getDatasheet?partID=190128; ComponentLink3Description: https://www.verical.com/server-webapp/html/getDatasheet?partID=190128; ComponentLink4URL: http://www.ti.com/general/docs/lit/getliterature.tsp?genericPartNumber=SN74LVC2T45&&fileType=pdf; ComponentLink4Description: http://www.ti.com/general/docs/lit/getliterature.tsp?genericPartNumber=SN74LVC2T45&&fileType=pdf; ComponentLink5URL: http://www.farnell.com/datasheets/1882347.pdf; ComponentLink5Description: http://www.farnell.com/datasheets/1882347.pdf; ComponentLink6URL: http://focus.ti.com/lit/ds/symlink/sn74lvc2t45.pdf; ComponentLink6Description: http://focus.ti.com/lit/ds/symlink/sn74lvc2t45.pdf; ComponentLink7URL: http://www.farnell.com/datasheets/1863620.pdf; ComponentLink7Description: http://www.farnell.com/datasheets/1863620.pdf; Manufacturer Part Number: SN74LVC2T45DCTR
footprint SOP8
pins: 1 VCCA (power), 2 A1, 3 A2, 4 GND (power), 5 DIR, 6 B2, 7 B1, 8 VCCB (power)

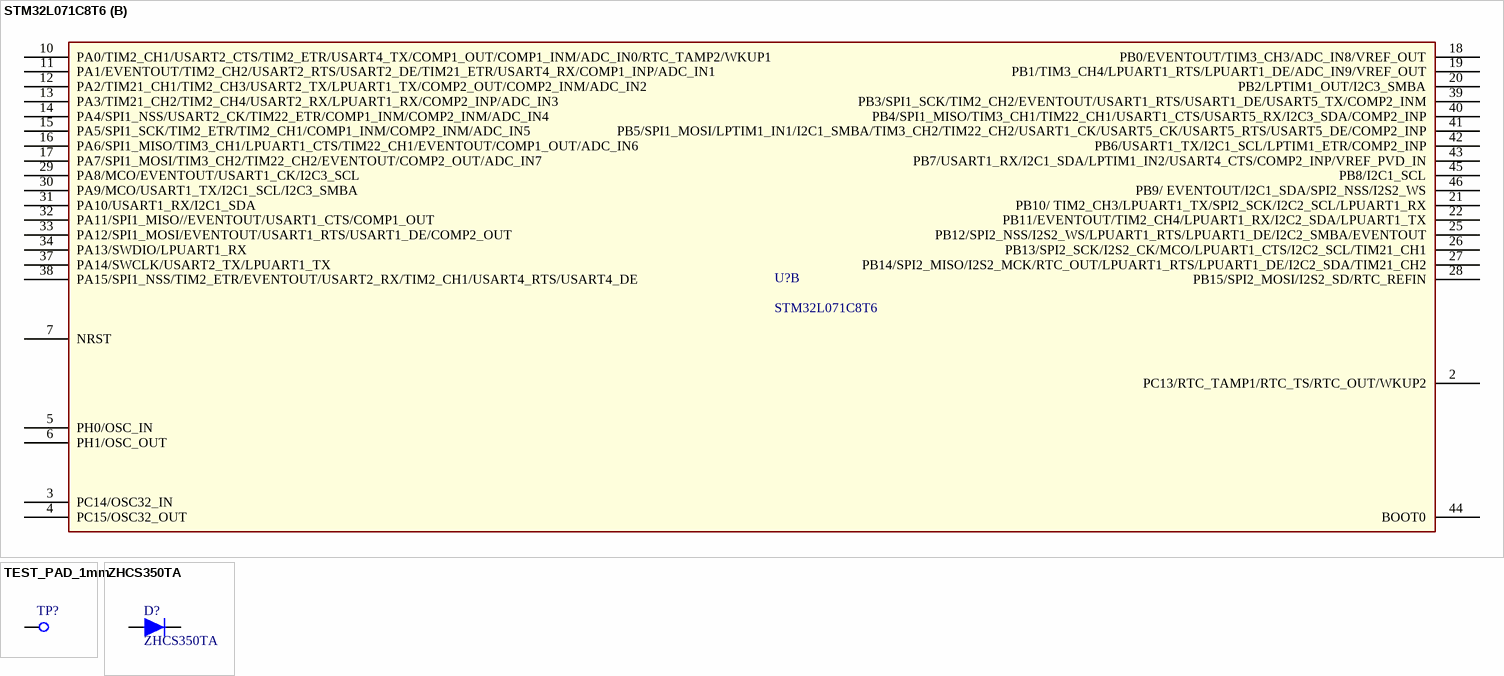
[diagram p1: symbols STM32L071C8T6 to ZHCS350TA]

## STM32L071C8T6
designator U?
ARM® Cortex®-M0+ STM32L0 Microcontroller IC 32-Bit 32MHz 64KB (64K x 8) FLASH 48-LQFP (7x7); Manufacturer: STMicroelectronics; Supplier 1: Digi-Key; Supplier Part Number 1: 497-17496-ND; Stock 1: 1883; Pricing 1: 1=3.15, 10=2.827, 100=2.3166, 500=1.9721, 1000=1.6632 (USD); Manufacturer Part Number: STM32L071C8T6
footprint LQFP48
part A pins: 1 VDD (power), 8 VSSA (power), 9 VDDA (power), 23 VSS (power), 24 VDD (power), 35 VSS (power), 36 VDDIO2 (power), 47 VSS (power), 48 VDD (power)
part B pins: 2 PC13/RTC_TAMP1/RTC_TS/RTC_OUT/WKUP2, 3 PC14/OSC32_IN, 4 PC15/OSC32_OUT, 5 PH0/OSC_IN, 6 PH1/OSC_OUT, 7 NRST, 10 PA0/TIM2_CH1/USART2_CTS/TIM2_ETR/USART4_TX/COMP1_OUT/COMP1_INM/ADC_IN0/RTC_TAMP2/WKUP1, 11 PA1/EVENTOUT/TIM2_CH2/USART2_RTS/USART2_DE/TIM21_ETR/USART4_RX/COMP1_INP/ADC_IN1, 12 PA2/TIM21_CH1/TIM2_CH3/USART2_TX/LPUART1_TX/COMP2_OUT/COMP2_INM/ADC_IN2, 13 PA3/TIM21_CH2/TIM2_CH4/USART2_RX/LPUART1_RX/COMP2_INP/ADC_IN3, 14 PA4/SPI1_NSS/USART2_CK/TIM22_ETR/COMP1_INM/COMP2_INM/ADC_IN4, 15 PA5/SPI1_SCK/TIM2_ETR/TIM2_CH1/COMP1_INM/COMP2_INM/ADC_IN5, 16 PA6/SPI1_MISO/TIM3_CH1/LPUART1_CTS/TIM22_CH1/EVENTOUT/COMP1_OUT/ADC_IN6, 17 PA7/SPI1_MOSI/TIM3_CH2/TIM22_CH2/EVENTOUT/COMP2_OUT/ADC_IN7, 18 PB0/EVENTOUT/TIM3_CH3/ADC_IN8/VREF_OUT, 19 PB1/TIM3_CH4/LPUART1_RTS/LPUART1_DE/ADC_IN9/VREF_OUT, 20 PB2/LPTIM1_OUT/I2C3_SMBA, 21 PB10/ TIM2_CH3/LPUART1_TX/SPI2_SCK/I2C2_SCL/LPUART1_RX, 22 PB11/EVENTOUT/TIM2_CH4/LPUART1_RX/I2C2_SDA/LPUART1_TX, 25 PB12/SPI2_NSS/I2S2_WS/LPUART1_RTS/LPUART1_DE/I2C2_SMBA/EVENTOUT, 26 PB13/SPI2_SCK/I2S2_CK/MCO/LPUART1_CTS/I2C2_SCL/TIM21_CH1, 27 PB14/SPI2_MISO/I2S2_MCK/RTC_OUT/LPUART1_RTS/LPUART1_DE/I2C2_SDA/TIM21_CH2, 28 PB15/SPI2_MOSI/I2S2_SD/RTC_REFIN, 29 PA8/MCO/EVENTOUT/USART1_CK/I2C3_SCL, 30 PA9/MCO/USART1_TX/I2C1_SCL/I2C3_SMBA, 31 PA10/USART1_RX/I2C1_SDA, 32 PA11/SPI1_MISO//EVENTOUT/USART1_CTS/COMP1_OUT, 33 PA12/SPI1_MOSI/EVENTOUT/USART1_RTS/USART1_DE/COMP2_OUT, 34 PA13/SWDIO/LPUART1_RX, 37 PA14/SWCLK/USART2_TX/LPUART1_TX, 38 PA15/SPI1_NSS/TIM2_ETR/EVENTOUT/USART2_RX/TIM2_CH1/USART4_RTS/USART4_DE, 39 PB3/SPI1_SCK/TIM2_CH2/EVENTOUT/USART1_RTS/USART1_DE/USART5_TX/COMP2_INM, 40 PB4/SPI1_MISO/TIM3_CH1/TIM22_CH1/USART1_CTS/USART5_RX/I2C3_SDA/COMP2_INP, 41 PB5/SPI1_MOSI/LPTIM1_IN1/I2C1_SMBA/TIM3_CH2/TIM22_CH2/USART1_CK/USART5_CK/USART5_RTS/USART5_DE/COMP2_INP, 42 PB6/USART1_TX/I2C1_SCL/LPTIM1_ETR/COMP2_INP, 43 PB7/USART1_RX/I2C1_SDA/LPTIM1_IN2/USART4_CTS/COMP2_INP/VREF_PVD_IN, 44 BOOT0, 45 PB8/I2C1_SCL, 46 PB9/ EVENTOUT/I2C1_SDA/SPI2_NSS/I2S2_WS

## TEST_PAD_1mm
designator TP?, comment Test Pad 1mm  (value not drawn)  (no BOM)
footprint TP_1MM
pins: 1

## ZHCS350TA
designator D?
DIODE SCHOTTKY 40V 350MA SOD523; Manufacturer: Diodes Zetex; If - Forward Current: 0.51 A; Vf - Forward Voltage: 0.81 V at 0.35 A; Ifsm - Forward Surge Current: 4.2 A; Configuration: Single; Ir - Reverse Current: 12 uA at 30 V; Brand: Diodes Incorporated; trr - Reverse Recovery time: 1.6 ns; Type: Schottky Diode; Unit Weight: 0.000035 oz; Supplier 1: Digi-Key; Supplier Part Number 1: ZHCS350TACT-ND; Stock 1: 263997; Pricing 1: 1=0.45, 10=0.382, 100=0.2855, 500=0.2243, 1000=0.1734 (USD); Product Category: Schottky Diodes & Rectifiers; RoHS: True; Product: Schottky Diodes; Mounting Style: SMD/SMT; Package / Case: SOD-523; Vrrm - Repetitive Reverse Voltage: 40 V; Technology: Si; Maximum Operating Temperature: + 125 C; Minimum Operating Temperature: - 55 C; Series: ZHCS350; Packaging: Reel; Height: 0.8 mm; Length: 1.3 mm; Operating Temperature Range: + 125 C; Factory Pack Quantity: 3000; Termination Style: SMD/SMT; Width: 0.9 mm; ComponentLink1URL: http://www.farnell.com/datasheets/2238072.pdf; ComponentLink1Description: http://www.farnell.com/datasheets/2238072.pdf; ComponentLink2URL: http://www.diodes.com/datasheets/ZHCS350.pdf; ComponentLink2Description: http://www.diodes.com/datasheets/ZHCS350.pdf; ComponentLink3URL: http://www.farnell.com/datasheets/13262.pdf; ComponentLink3Description: http://www.farnell.com/datasheets/13262.pdf; ComponentLink4URL: http://www.diodes.com///datasheets/ZHCS350.pdf; ComponentLink4Description: http://www.diodes.com///datasheets/ZHCS350.pdf; ComponentLink5URL: https://www.diodes.com/assets/Datasheets/ZHCS350.pdf; ComponentLink5Description: https://www.diodes.com/assets/Datasheets/ZHCS350.pdf; ComponentLink6URL: http://www.mouser.com/ds/2/115/ZHCS350-93341.pdf; ComponentLink6Description: http://www.mouser.com/ds/2/115/ZHCS350-93341.pdf; Manufacturer Part Number: ZHCS350TA
footprint DIODE_SOD-523
pins: 1 A, 2 K